# EAGLE library part SPT-3P (library Traficon)
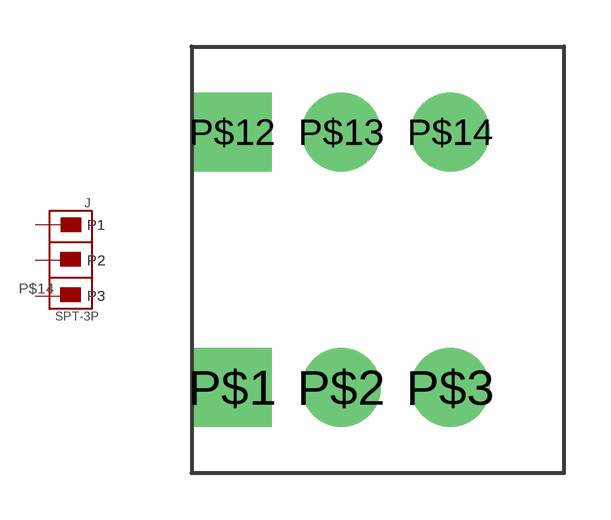
[diagram p216: symbol with the pads of SPT-3P; footprint SPT-3P]

Designator prefix J

## SPT-3P  [SPT-3P]
P$1  P1
P$2  P2
P$3  P3
P$12  P1
P$13  P2
P$14  P3

## Footprint SPT-3P (pad centres in mm)
drill 1.1 pad 2.54 square: P$1 1.27,-3.81; P$12 1.27,4.39
drill 1.1 pad 2.54 round: P$2 4.77,-3.81; P$3 8.27,-3.81; P$13 4.77,4.39; P$14 8.27,4.39